# Altium footprint library TSSOP8.PcbLib: 1 footprints
Each footprint in its own frame and in the unit in brackets; x right, y up, seen from the top. Pads: shape width x height; smd on the part's side, far side on the other; paste and mask are expansions set on the pad; w line width, h text height; cw(c..) or ccw(c..) is an arc to the next point about the centre after c.
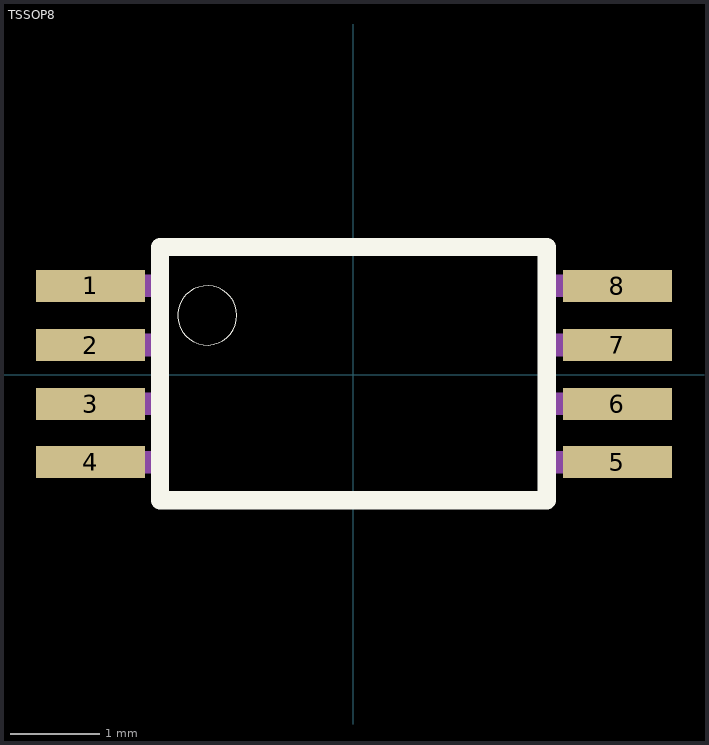
[diagram p0: the footprint, top view; thin cyan lines are the x and y axes]

## TSSOP8 [mil]
pads (8):
  rect 48x14 smd: 1(-115.16,39) 2(-115.16,13) 3(-115.16,-12.8) 4(-115.16,-38.39) 5(116,-38.39) 6(116,-12.8) 7(116,13) 8(116,39)
Top Overlay:
  circle w0: c-63.98,26 r13
  lines w8: -84.65,-55.12 85,-55.12 85,56 -84.65,56 -84.65,-55.12
Mechanical 16:
  rectangle: -125.98,34 -86.61,44
  rectangle: -125.98,8 -86.61,18
  rectangle: -125.98,-17.72 -86.61,-7.87
  rectangle: -125.98,-43.31 -86.61,-33.46
  rectangle: 87,-43.31 126,-33.46
  rectangle: 87,-17.72 126,-7.87
  rectangle: 87,8 126,18
  rectangle: 87,34 126,44